# Altium integrated library Caps.IntLib: 151 symbols (part 1 of 3)
Pins are listed as number, name and electrical type; pins without a type are passive.

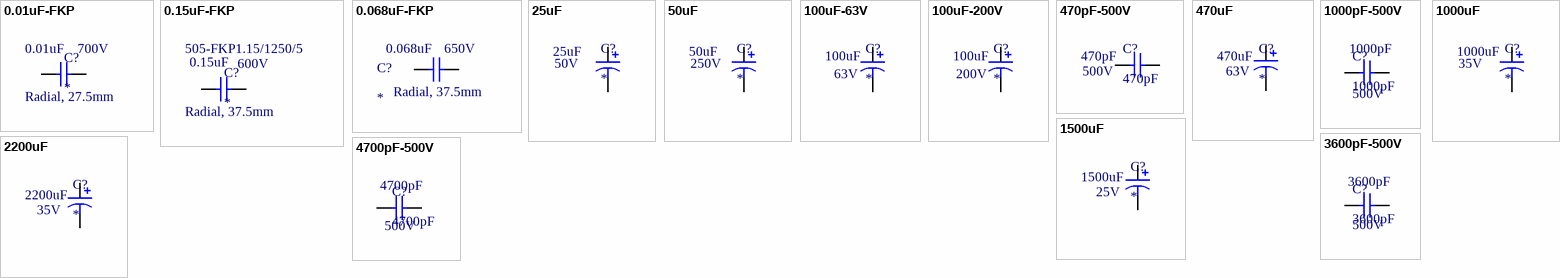
[diagram p0: symbols 0.01uF-FKP to 4700pF-500V]

## 0.01uF-FKP
designator C?  value 0.01uF  VoltageAC: 700V  PackageReference: Radial, 27.5mm
0.01uF, Film Capacitor, 31.5mm x 11mm, 21mm, lead spacing 27.5mm, 700VAC, 2kVDC, 5%; Manufacturer: WIMA; Manufacturer Part Number: FKP1U021006B00JYSD; Value2: 10nF; VoltageDC: 2kV; LatestRevisionDate: *; PackageDescription: Film Capacitor; Published: *; Publisher: Altium Limited; Temperature: -55 to +100; Supplier 1: Mouser; Supplier 2: TME; Supplier Part Number 1: 505-FKP1.01/2000/5; Supplier Part Number 2: FKP1-10N/2000
footprint FKP-27.5-6B (FKP1 series film capacitor, size 6B, WIMA)
3D model FKP-27_5-6B (PCB3D Model)
simulation model CAP (Default semiconductor capacitor)
pins: 1, 2

## 0.15uF-FKP
designator C?  value 0.15uF  VoltageAC: 600V  PackageReference: Radial, 37.5mm  Supplier Part Number 1: 505-FKP1.15/1250/5
0.15uF, Film Capacitor, 41.5mm x 17mm, 29mm, lead spacing 37.5mm, 600VAC 1.25kVDC, 5%; Manufacturer: WIMA; Manufacturer Part Number: FKP1R031507E00JSSD; Value2: 150nF; VoltageDC: 1.25kV; LatestRevisionDate: *; PackageDescription: Film Capacitor; Published: *; Publisher: Altium Limited; Temperature: -55 to +100; Supplier 1: Mouser
footprint FKP-37.5-7E (FKP1 series film capacitor, size 7D, WIMA)
simulation model CAP (Default semiconductor capacitor)
pins: 1, 2

## 0.068uF-FKP
designator C?  value 0.068uF  Package Reference: Radial, 37.5mm  VoltageAC: 650V
0.068uF, Film Capacitor, 41.5mm x 15mm, 26mm, lead spacing 37.5mm, 650VAC 1.6kVDC, 5%; Manufacturer: WIMA; Manufacturer Part Number: FKP1T026807D00JYSD; Value2: 68nF; VoltageDC: 1.6kV; Supplier 1: Mouser; LatestRevisionDate: *; PackageDescription: Film Capacitor; Published: *; Publisher: Altium Limited; Temperature: -55 to +100; Supplier Part Number 1: 505-FKP1.068/1600/5
footprint FKP-37.5-7D (FKP1 series film capacitor, size 7D, WIMA)
3D model FKP-37_5-7D (PCB3D Model)
simulation model CAP (Default semiconductor capacitor)
pins: 1, 2

## 25uF
designator C?  value 25uF  VoltageDC: 50V
25uF, Alum Electrolytic Capacitor, 50V, 6mm x 13mm, axial; Manufacturer: Farnell; ManufacturerPartNumber: MCAX25V256K6X13; Impedance: 29mOhm; LatestRevisionDate: *; PackageDescription: Aluminum Electrolytic Capacitor; Published: *; Publisher: Altium Limited; Temperature: -40C to 105C; VoltageAC: *; PackageReference: Thru-hole, Axial; Supplier 1: Newark; Supplier Part Number 1: 97M3997; Dimensions: 6mm x 13mm
footprint MCAX-6mmx13mm (Axial Leaded, 20mm lead spacing)
pins: 1, 2

## 50uF
designator C?  value 50uF  VoltageDC: 250V
50uF, Alum Electrolytic Capacitor, axial; Manufacturer: Vishay; ManufacturerPartNumber: TVA1512-E3; LatestRevisionDate: *; PackageDescription: Aluminum Electrolytic Capacitor; Published: *; Publisher: Altium Limited; Temperature: -20C to 85C; VoltageAC: *; PackageReference: Thru-hole, Axial; Dimensions: 22mm x 35mm; Supplier 1: Newark; Supplier Part Number 1: 65K2262; Supplier 2: Mouser; Supplier Part Number 2: 75-TVA1512-E3
footprint TVA-ATOM-HG (TVA-ATOM Series, HG Case, 22.225mm x 34.925, axial)
pins: 1, 2

## 100uF-63V
designator C?  value 100uF  VoltageDC: 63V
100uF, Alum Electrolytic Capacitor, 63V, 10mm x 20mm, lead spacing 5mm; Manufacturer: Nichicon-us; Manufacturer Part Number: UPM1J101MPD; LatestRevisionDate: *; PackageDescription: Aluminum Electrolytic Capacitor; PackageReference: Radial, 5mm; Published: *; Publisher: Altium Limited; Temperature: -55C to +105C; VoltageAC: *; Supplier 1: Newark; Supplier Part Number 1: 65R3647; Supplier 2: Digi-Key; Supplier Part Number 2: UPM1J101MPD-ND; Supplier 3: Mouser; Supplier Part Number 3: 647-UPM1J101MPD
footprint THRU-PM-1J (Capacitor, PM series, alum electrolytic 10 x 20mm 5mm lead spacing)
pins: 1, 2

## 100uF-200V
designator C?  value 100uF  VoltageDC: 200V
100uF, Alum Electrolytic Capacitor, 200V, 21mm x 38mm, axial; Manufacturer: Vishay; Manufacturer Part Number: MAL211892101E3; LatestRevisionDate: *; PackageDescription: Aluminum Electrolytic Capacitor; PackageReference: Axial; Published: *; Publisher: Altium Limited; Temperature: -55C to +125C; VoltageAC: *; Supplier 1: Digi-Key; Supplier Part Number 1: 4182PHBK-ND; Supplier 2: Newark; Supplier Part Number 2: 14M6684
footprint 118AHT-AXIAL-21mmx38mm (118 AHT Series, Axial, 21mm x 38mm)
footprint THRU-22mmx35mm (Capacitor, 22mm x 35mm, axial mounted as radial)
pins: 1, 2

## 470pF-500V
designator C?, comment 470pF  VoltageDC: 500V
470uF, Mica Capacitor, 500V, 5%; Manufacturer: Cornell Dubilier; Manufacturer Part Number: CM06FD471JO3; LatestRevisionDate: *; PackageDescription: Mica Capacitor; PackageReference: Radial, 9mm; Published: *; Publisher: Altium Limited; Temperature: -55C to +105C; VoltageAC: *; Supplier 1: Newark; Supplier Part Number 1: 12C3891; Supplier 2: Mouser; Supplier Part Number 2: 598-CM06FD471JO3; Value: 470pF
footprint MICA-6MM (MICA cap 6MM lead spacing)
pins: 1, 2

## 470uF
designator C?  value 470uF  VoltageDC: 63V
470uF, Alum Electrolytic Capacitor, 63V, 12.5mm x 20mm, lead spacing 5mm; Manufacturer: Nichicon-us; Manufacturer Part Number: UVZ1J471MHD1TO; LatestRevisionDate: *; PackageDescription: Aluminum Electrolytic Capacitor; PackageReference: Radial, 5mm; Published: *; Publisher: Altium Limited; Temperature: -55C to +105C; VoltageAC: *; Supplier 1: Newark; Supplier Part Number 1: 70K9718; Supplier 2: Mouser; Supplier Part Number 2: 647-UVZ1J471MHD1TO
footprint THRU-KZE-K25 (Capacitor, KMG series, alum electrolytic 12.5 x 25mm 5mm lead spacing)
pins: 1, 2

## 1000pF-500V
designator C?, comment 1000pF  VoltageDC: 500V
1000pF, Mica Capacitor, 500V, 5%; Manufacturer: Cornell Dubilier; Manufacturer Part Number: CD19FD102JO3; LatestRevisionDate: *; PackageDescription: Mica Capacitor; PackageReference: Radial, 7.6mm; Published: *; Publisher: Altium Limited; Temperature: -55C to +105C; VoltageAC: *; Supplier 1: Newark; Supplier Part Number 1: 12C3148; Supplier 2: Mouser; Supplier Part Number 2: 5982-19-500V1000; Value: 1000pF
footprint MICA-9MM (MICA cap 9MM lead spacing)
pins: 1, 2

## 1000uF
designator C?  value 1000uF  VoltageDC: 35V
1000uF, Alum Electrolytic Capacitor, 35V, 16mm x 20mm, lead spacing 7.5mm; Manufacturer: Panasonic; Manufacturer Part Number: EEU-FC1V102S; Impedance: 29mOhm; LatestRevisionDate: *; PackageDescription: Aluminum Electrolytic Capacitor; Published: *; Publisher: Altium Limited; Temperature: -55C to 105C; VoltageAC: *; PackageReference: Thru-Hole, 7.5mm; Supplier 1: Digi-Key; Supplier Part Number 1: P10876-ND; Supplier 2: Newark; Supplier Part Number 2: 17T5114; Supplier 3: Mouser; Supplier Part Number 3: 667-EEU-FC1V102SB
footprint THRU-KMG-L25 (Capacitor, KMG series, alum electrolytic 16 x 25mm 7.5mm lead spacing)
pins: 1, 2

## 1500uF
designator C?  value 1500uF  VoltageDC: 25V
1500uF, Alum Electrolytic Capacitor, 25V, 12.5mm x 25mm, lead spacing 5mm; Manufacturer: Chemi-Con; Manufacturer Part Number: EKZE250ELL152MK25S; LatestRevisionDate: *; PackageDescription: Aluminum Electrolytic Capacitor; PackageReference: Radial, 5mm; Published: *; Publisher: Altium Limited; Temperature: -40 to +105; VoltageAC: *; Supplier 1: Mouser; Supplier Part Number 1: 661-EKZE250ELL152MK2; Supplier 2: Newark; Supplier Part Number 2: 23K3957; Supplier 3: Digi-Key; Supplier Part Number 3: 565-1682-ND
footprint THRU-KZE-K25 (Capacitor, KMG series, alum electrolytic 12.5 x 25mm 5mm lead spacing)
pins: 1, 2

## 2200uF
designator C?  value 2200uF  VoltageDC: 35V
2200uF, Alum Electrolytic Capacitor, 35V, 16mm x 25mm, lead spacing 7.5mm; Manufacturer: United Chemi-Con; Manufacturer Part Number: EKMG350ELL222ML25S; LatestRevisionDate: *; Package Description: Aluminum Electrolytic Capacitor; PackageReference: Radial, 7.5mm; Published: *; Publisher: Altium Limited; VoltageAC: *; Supplier 1: Newark; Supplier Part Number 1: 23K3634; Supplier 2: Digi-Key; Supplier Part Number 2: 565-1326-ND; Supplier 3: Mouser; Supplier Part Number 3: 661-EKMGG350ELL222ML
footprint THRU-KMG-L25 (Capacitor, KMG series, alum electrolytic 16 x 25mm 7.5mm lead spacing)
pins: 1, 2

## 3600pF-500V
designator C?, comment 3600pF  VoltageDC: 500V
3600pF, Mica Capacitor, 500V, 5%; Manufacturer: Cornell Dubilier; Manufacturer Part Number: CD19FD362JO3; LatestRevisionDate: *; PackageDescription: Mica Capacitor; PackageReference: Radial, 7.6mm; Published: *; Publisher: Altium Limited; Temperature: -55C to +105C; VoltageAC: *; Supplier 1: Newark; Supplier Part Number 1: 12C3148; Supplier 2: Mouser; Supplier Part Number 2: 5982-19-500V3600; Value: 3600pF
footprint MICA-9MM (MICA cap 9MM lead spacing)
pins: 1, 2

## 4700pF-500V
designator C?, comment 4700pF  VoltageDC: 500V
4700pF, Mica Capacitor, 500V, 5%; Manufacturer: Cornell Dubilier; Manufacturer Part Number: CM06FD472JO3; LatestRevisionDate: *; PackageDescription: Mica Capacitor; PackageReference: Radial, 9mm; Published: *; Publisher: Altium Limited; Temperature: -55C to +105C; VoltageAC: *; Supplier 1: Newark; Supplier Part Number 1: 12C3891; Supplier 2: Mouser; Supplier Part Number 2: 598-CM06FD472JO3; Value: 4700pF
footprint MICA-9MM (MICA cap 9MM lead spacing)
pins: 1, 2


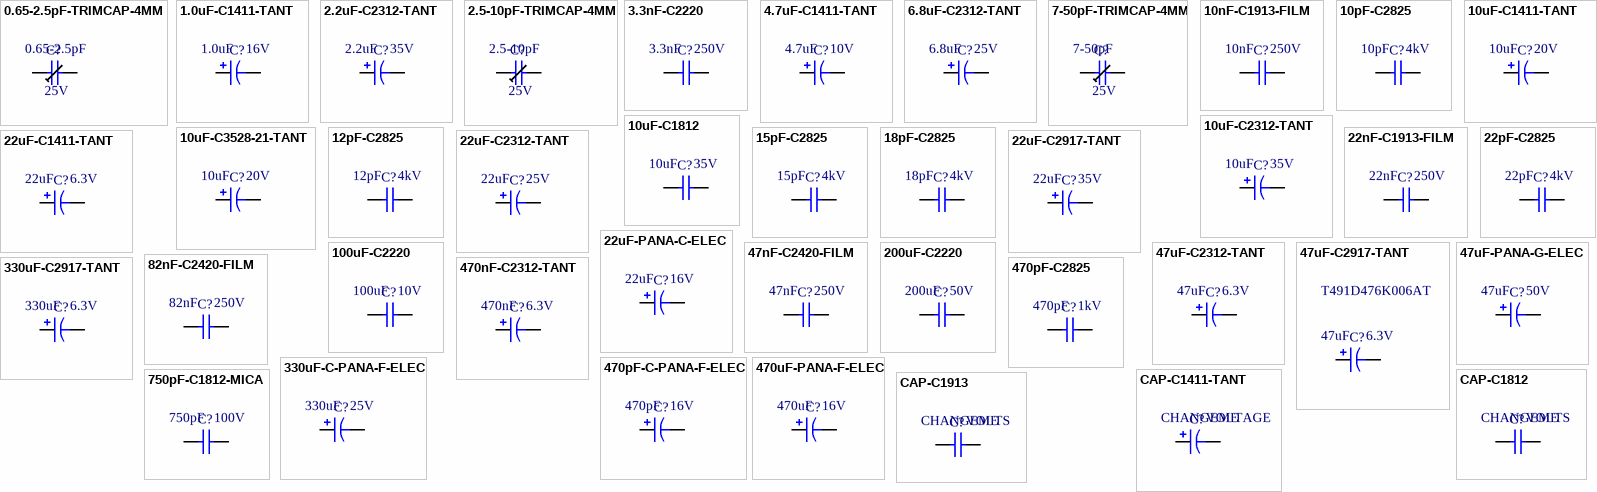
[diagram p1: symbols 0.65-2.5pF-TRIMCAP-4MM to CAP-C1913]

## 0.65-2.5pF-TRIMCAP-4MM
designator C?, comment value 0.65-2.5pF  Voltage: 25V  (hidden comment: TZY2Z2R5A001R00, .65-2.5pF, 0805, 25V)
0.65-2.5pF, SMD Trimmer Capacitor, 4mm x 1.25mm, Non Polarized, 25V; Published: 8-Jun-2000; LatestRevisionDate: 29-May-2009; LatestRevisionNote: IPC-7351 Footprint Added.; Publisher: Altium Limited; PackageDescription: Trim Capacitor; Supplier 1: Mouser; Supplier 2: Digi-Key; Supplier Part Number 1: 81-TZY2Z2R5A001R00; Supplier Part Number 2: 490-2008-1-ND; Part Number: TZY2Z2R5A001R00; PackageReference: 4mmx1.25
footprint TRIMCAP-4MM (Trim Capacitor, 2-Leads, Body 4.0 x 1.25mm, IPC Medium Density)
simulation model CAP (Capacitor)
signal-integrity model Cap Semi (Capacitor Signal Integrity Analisys)
pins: 1, 2

## 1.0uF-C1411-TANT
designator C?, comment value 1.0uF  Voltage: 16V  (hidden comment: 1.0uF, 1411, 16V)
1.0uF, SMD Tantalum Capacitor, 1411 size, Polarized, 16V; Published: 8-Jun-2000; LatestRevisionDate: 29-May-2009; LatestRevisionNote: IPC-7351 Footprint Added.; Publisher: Altium Limited; PackageDescription: Chip Capacitor; Supplier 1: Digi-Key; Supplier 2: Digi-Key; Supplier 3: Mouser; Supplier Part Number 1: 399-10227-6-ND; Supplier Part Number 2: 399-10227-1-ND; Supplier Part Number 3: 80-T494B105K025; PackageReference: 1411C
footprint 1411-C-TANT (Capacitor, SM Tantalum; Body 3.5 x 2.8 mm (LxW typ), Kemet size code: B, T, AVX size code: B, T)
simulation model CAP (Capacitor)
signal-integrity model Cap Semi (Capacitor Signal Integrity Analisys)
3D model 1411Cap-Tant-B (PCB3D Model)
pins: 1, 2

## 2.2uF-C2312-TANT
designator C?, comment value 2.2uF  Voltage: 35V  (hidden comment: 2.2uF, 2312, 35V)
2.2uF, SMD Chip Capacitor, 2312 size, Tantalum, Polarized, 35V; Published: 8-Jun-2000; LatestRevisionDate: 29-May-2009; LatestRevisionNote: IPC-7351 Footprint Added.; Publisher: Altium Limited; PackageDescription: Chip Capacitor; Supplier 1: Mouser; Supplier 2: Digi-Key; Supplier 3: Newark; Supplier Part Number 1: 80-T491C225K035; Supplier Part Number 2: 399-3740-1-ND; Supplier Part Number 3: 57K1881; PackageReference: 2312C
footprint 2412-C-TANT (Capacitor, SM Tantalum; Body 6.0 x 3.2 mm (LxW typ), Kemet Size Codes: U, C; AVX size code: C, W)
simulation model CAP (Capacitor)
signal-integrity model Cap Semi (Capacitor Signal Integrity Analisys)
3D model 2312Cap-Tant-C (PCB3D Model)
pins: 1, 2

## 2.5-10pF-TRIMCAP-4MM
designator C?, comment value 2.5-10pF  Voltage: 25V  (hidden comment: 2.5-10pF, 0805, 25V)
2.5-10pF, SMD Trimmer Capacitor, 4mm x 1.25mm, Non Polarized, 25V; Published: 8-Jun-2000; LatestRevisionDate: 29-May-2009; LatestRevisionNote: IPC-7351 Footprint Added.; Publisher: Altium Limited; PackageDescription: Trim Capacitor; Supplier 1: Digi-Key; Supplier 2: Mouser; Supplier Part Number 1: CTZ3E-10A-W1-ND; Supplier Part Number 2: N/A; PackageReference: 4 x 1.25 mm
footprint TRIMCAP-4MM (Trim Capacitor, 2-Leads, Body 4.0 x 1.25mm, IPC Medium Density)
simulation model CAP (Capacitor)
signal-integrity model Cap Semi (Capacitor Signal Integrity Analisys)
pins: 1, 2

## 3.3nF-C2220
designator C?, comment value 3.3nF  Voltage: 250V  (hidden comment: 3.3nF, 2220, 4kV)
3.3nF, SMD Chip Capacitor, 2220 size, Non Polarized, 250V; Published: 8-Jun-2000; LatestRevisionDate: 29-May-2009; LatestRevisionNote: IPC-7351 Footprint Added.; Publisher: Altium Limited; PackageDescription: Chip Capacitor; Supplier 1: Digi-Key; Supplier 2: Newark; Supplier 3: Mouser; Supplier Part Number 1: 490-3481-1-ND; Supplier Part Number 2: 74R4275; Supplier Part Number 3: 81-GA355QR7GF332KL; PackageReference: 2220C
footprint 2220-C (Chip Capacitor, 2-Leads IPC Low Density)
simulation model CAP (Capacitor)
signal-integrity model Cap Semi (Capacitor Signal Integrity Analisys)
3D model 2220Cap (PCB3D Model)
pins: 1, 2

## 4.7uF-C1411-TANT
designator C?, comment value 4.7uF  Voltage: 10V  (hidden comment: 4.7uF, 1411, 10V)
4.7uF, SMD Tantalum Capacitor, 1411 size, Polarized, 10V; Published: 8-Jun-2000; LatestRevisionDate: 29-May-2009; LatestRevisionNote: IPC-7351 Footprint Added.; Publisher: Altium Limited; PackageDescription: Chip Capacitor; Supplier 1: Digi-Key; Supplier 2: Newark; Supplier 3: Arrow; Supplier 4: Mouser; Supplier Part Number 1: 399-3838-1-ND; Supplier Part Number 2: 32K7024; Supplier Part Number 3: T494B475K010AT; Supplier Part Number 4: 80-T494B475K010; PackageReference: 1411C
footprint 1411-C-TANT (Capacitor, SM Tantalum; Body 3.5 x 2.8 mm (LxW typ), Kemet size code: B, T, AVX size code: B, T)
simulation model CAP (Capacitor)
signal-integrity model Cap Semi (Capacitor Signal Integrity Analisys)
3D model 1411Cap-Tant-B (PCB3D Model)
pins: 1, 2

## 6.8uF-C2312-TANT
designator C?, comment value 6.8uF  Voltage: 25V  (hidden comment: 6.8uF, 2312, 25V)
6.8uF, SMD Chip Capacitor, 2312 size, Tantalum, Polarized 25V; Published: 8-Jun-2000; LatestRevisionDate: 29-May-2009; LatestRevisionNote: IPC-7351 Footprint Added.; Publisher: Altium Limited; PackageDescription: Chip Capacitor; Supplier 1: Mouser; Supplier 2: Arrow; Supplier 3: Digi-Key; Supplier 4: Newark; Supplier Part Number 1: 80-T491C685K025; Supplier Part Number 2: T491C685K025AT; Supplier Part Number 3: 399-3760-1-ND; Supplier Part Number 4: 57K1934; PackageReference: 2312C
footprint 2412-C-TANT (Capacitor, SM Tantalum; Body 6.0 x 3.2 mm (LxW typ), Kemet Size Codes: U, C; AVX size code: C, W)
simulation model CAP (Capacitor)
signal-integrity model Cap Semi (Capacitor Signal Integrity Analisys)
3D model 2312Cap-Tant-C (PCB3D Model)
pins: 1, 2

## 7-50pF-TRIMCAP-4MM
designator C?, comment value 7-50pF  Voltage: 25V  (hidden comment: 7-50pF, 4mm, 25V)
7-50pF, SMD Trimmer Capacitor, 4mm x 1.25mm, Non Polarized, 25V; Published: 8-Jun-2000; LatestRevisionDate: 29-May-2009; LatestRevisionNote: IPC-7351 Footprint Added.; Publisher: Altium Limited; PackageDescription: Trim Capacitor; Supplier 1: Newark; Supplier 2: Digi-Key; Supplier 3: Mouser; Supplier Part Number 1: 33R1447; Supplier Part Number 2: 490-7146-1-ND; Supplier Part Number 3: 81-TZB4R500AB10R00; PackageReference: 4mmx1.25
footprint TRIMCAP-4MM (Trim Capacitor, 2-Leads, Body 4.0 x 1.25mm, IPC Medium Density)
simulation model CAP (Capacitor)
signal-integrity model Cap Semi (Capacitor Signal Integrity Analisys)
pins: 1, 2

## 10nF-C1913-FILM
designator C?, comment value 10nF  Voltage: 250V  (hidden comment: 10nF, 1913, 250V)
10nF, SMD Chip Capacitor, 1913 size, Non Polarized, 250V, FILM; Published: 8-Jun-2000; LatestRevisionDate: 29-May-2009; LatestRevisionNote: IPC-7351 Footprint Added.; Publisher: Altium Limited; PackageDescription: Chip Capacitor; Supplier 1: Digi-Key; Supplier 2: Mouser; Supplier Part Number 1: PCF1247CT-ND; Supplier Part Number 2: 667-ECW-U2102KC9; PackageReference: 1913C
footprint 1913-C (Chip Capacitor, 2-Leads, IPC Low Density)
simulation model CAP (Capacitor)
signal-integrity model Cap Semi (Capacitor Signal Integrity Analisys)
3D model 1913Cap (PCB3D Model)
pins: 1, 2

## 10pF-C2825
designator C?, comment value 10pF  Voltage: 4kV  (hidden comment: 10pF, 2825, 4kV)
10pF, SMD Chip Capacitor, 2825 size, Non Polarized, 4kV; Published: 8-Jun-2000; LatestRevisionDate: 29-May-2009; LatestRevisionNote: IPC-7351 Footprint Added.; Publisher: Altium Limited; PackageDescription: Chip Capacitor; Supplier 1: Digi-Key; Supplier 2: Mouser; Supplier Part Number 1: PCC2368CT-ND; Supplier Part Number 2: 667-ECC-T3F100DG2; PackageReference: 2825C
footprint 2825-C (Molded Capacitor, 2-Leads, Body 5.70x4.50mm, IPC Low Density)
simulation model CAP (Capacitor)
signal-integrity model Cap Semi (Capacitor Signal Integrity Analisys)
pins: 1, 2

## 10uF-C1411-TANT
designator C?, comment value 10uF  Voltage: 20V  (hidden comment: 10uF, 1411, 20V)
10uF, SMD Tantalum Capacitor, 1411 size, Polarized, 20V; Published: 8-Jun-2000; LatestRevisionDate: 29-May-2009; LatestRevisionNote: IPC-7351 Footprint Added.; Publisher: Altium Limited; PackageDescription: Chip Capacitor; Supplier 1: Newark; Supplier 2: Digi-Key; Supplier 3: Mouser; Supplier Part Number 1: 12N2783; Supplier Part Number 2: 399-4973-1-ND; Supplier Part Number 3: 80-T495B106K20ATE1K; PackageReference: 1411C
footprint 1411-C-TANT (Capacitor, SM Tantalum; Body 3.5 x 2.8 mm (LxW typ), Kemet size code: B, T, AVX size code: B, T)
simulation model CAP (Capacitor)
signal-integrity model Cap Semi (Capacitor Signal Integrity Analisys)
3D model 1411Cap-Tant-B (PCB3D Model)
pins: 1, 2

## 10uF-C1812
designator C?, comment value 10uF  Voltage: 35V  (hidden comment: 10uF, 1812, 35V)
10uF, SMD Chip Capacitor, 1812 size, Non Polarized, 35V; Published: 8-Jun-2000; LatestRevisionDate: 29-May-2009; LatestRevisionNote: IPC-7351 Footprint Added.; Publisher: Altium Limited; PackageDescription: Chip Capacitor; Supplier 1: Arrow; Supplier 2: Digi-Key; Supplier Part Number 1: ECJ-5YF1V106Z; Supplier Part Number 2: PCC2183CT-ND; PackageReference: 1812C
footprint 1812-C (Chip Capacitor, 2-Leads, IPC Low Density)
simulation model CAP (Capacitor)
signal-integrity model Cap Semi (Capacitor Signal Integrity Analisys)
3D model 1812Cap (PCB3D Model)
pins: 1, 2

## 10uF-C2312-TANT
designator C?, comment value 10uF  Voltage: 35V  (hidden comment: 10uF, 2312, 35V)
10uF, SMD Chip Capacitor, 2312 size, Tantalum, Polarized, 35V; Published: 8-Jun-2000; LatestRevisionDate: 29-May-2009; LatestRevisionNote: IPC-7351 Footprint Added.; Publisher: Altium Limited; PackageDescription: Chip Capacitor; Supplier 1: Mouser; Supplier 2: Arrow; Supplier 3: Digi-Key; Supplier 4: Newark; Supplier Part Number 1: 80-T491C106K035; Supplier Part Number 2: T491C106K035AT; Supplier Part Number 3: 399-8333-1-ND; Supplier Part Number 4: 57K1849; PackageReference: 2312C
footprint 2412-C-TANT (Capacitor, SM Tantalum; Body 6.0 x 3.2 mm (LxW typ), Kemet Size Codes: U, C; AVX size code: C, W)
simulation model CAP (Capacitor)
signal-integrity model Cap Semi (Capacitor Signal Integrity Analisys)
3D model 2312Cap-Tant-C (PCB3D Model)
pins: 1, 2

## 10uF-C3528-21-TANT
designator C?, comment value 10uF  Voltage: 20V  (hidden comment: 10uF, 3528-21, 20V)
10uF, SMD Tantalum Capacitor, 3528-21 size, Polarized, 20V; Published: 8-Jun-2000; LatestRevisionDate: 29-May-2009; LatestRevisionNote: IPC-7351 Footprint Added.; Publisher: Altium Limited; PackageDescription: Chip Capacitor; PackageReference: 3528-21
simulation model CAP (Capacitor)
signal-integrity model Cap Semi (Capacitor Signal Integrity Analisys)
3D model 1411Cap-Tant-B (PCB3D Model)
footprint 1210-C-TANT (Molded Capacitor, 2-Leads, Body 3.50x2.85mm, IPC Low Density)
pins: 1, 2

## 12pF-C2825
designator C?, comment value 12pF  Voltage: 4kV  (hidden comment: 12pF, 2825, 4kV)
12pF, SMD Chip Capacitor, 2825 size, Non Polarized, 4kV; Published: 8-Jun-2000; LatestRevisionDate: 29-May-2009; LatestRevisionNote: IPC-7351 Footprint Added.; Publisher: Altium Limited; PackageDescription: Chip Capacitor; Supplier 1: Digi-Key; Supplier 2: Mouser; Supplier Part Number 1: PCC2376CT-ND; Supplier Part Number 2: 667-ECC-T3G120JG2; PackageReference: 2825C
footprint 2825-C (Molded Capacitor, 2-Leads, Body 5.70x4.50mm, IPC Low Density)
simulation model CAP (Capacitor)
signal-integrity model Cap Semi (Capacitor Signal Integrity Analisys)
pins: 1, 2

## 15pF-C2825
designator C?, comment value 15pF  Voltage: 4kV  (hidden comment: 15pF, 2825, 4kV)
15pF, SMD Chip Capacitor, 2825 size, Non Polarized, 4kV; Published: 8-Jun-2000; LatestRevisionDate: 29-May-2009; LatestRevisionNote: IPC-7351 Footprint Added.; Publisher: Altium Limited; PackageDescription: Chip Capacitor; Supplier 1: Mouser; Supplier 2: Arrow; Supplier 3: Digi-Key; Supplier Part Number 1: 667-ECC-T3G150JG2; Supplier Part Number 2: ECC-T3G150JG2; Supplier Part Number 3: PCC2377CT-ND; PackageReference: 2825C
footprint 2825-C (Molded Capacitor, 2-Leads, Body 5.70x4.50mm, IPC Low Density)
simulation model CAP (Capacitor)
signal-integrity model Cap Semi (Capacitor Signal Integrity Analisys)
pins: 1, 2

## 18pF-C2825
designator C?, comment value 18pF  Voltage: 4kV  (hidden comment: 18pF, 2825, 4kV)
18pF, SMD Chip Capacitor, 2825 size, Non Polarized, 4kV; Published: 8-Jun-2000; LatestRevisionDate: 29-May-2009; LatestRevisionNote: IPC-7351 Footprint Added.; Publisher: Altium Limited; PackageDescription: Chip Capacitor; Supplier 1: Digi-Key; Supplier 2: Mouser; Supplier Part Number 1: PCC2378CT-ND; Supplier Part Number 2: 667-ECC-T3G180JG2; PackageReference: 2825C
footprint 2825-C (Molded Capacitor, 2-Leads, Body 5.70x4.50mm, IPC Low Density)
simulation model CAP (Capacitor)
signal-integrity model Cap Semi (Capacitor Signal Integrity Analisys)
pins: 1, 2

## 22nF-C1913-FILM
designator C?, comment value 22nF  Voltage: 250V  (hidden comment: 22nF, 1913, 250V)
22nF, SMD Chip Capacitor, 1913 size, Non Polarized, 250V, FILM; Published: 8-Jun-2000; LatestRevisionDate: 29-May-2009; LatestRevisionNote: IPC-7351 Footprint Added.; Publisher: Altium Limited; PackageDescription: Chip Capacitor; Supplier 1: Mouser; Supplier 2: Digi-Key; Supplier 3: Newark; Supplier Part Number 1: 667-ECW-U2223V16; Supplier Part Number 2: PCF1404CT-ND; Supplier Part Number 3: 32R8885; PackageReference: 1913C
footprint 1913-C (Chip Capacitor, 2-Leads, IPC Low Density)
simulation model CAP (Capacitor)
signal-integrity model Cap Semi (Capacitor Signal Integrity Analisys)
3D model 1913Cap (PCB3D Model)
pins: 1, 2

## 22pF-C2825
designator C?, comment value 22pF  Voltage: 4kV  (hidden comment: 22pF, 2825,4kV)
22pF, SMD Chip Capacitor, 2825 size, Non Polarized, 4kV; Published: 8-Jun-2000; LatestRevisionDate: 29-May-2009; LatestRevisionNote: IPC-7351 Footprint Added.; Publisher: Altium Limited; PackageDescription: Chip Capacitor; Supplier 1: Mouser; Supplier 2: Digi-Key; Supplier Part Number 1: 667-ECC-T3G220JG2; Supplier Part Number 2: PCC2379CT-ND; PackageReference: 2825C
footprint 2825-C (Molded Capacitor, 2-Leads, Body 5.70x4.50mm, IPC Low Density)
simulation model CAP (Capacitor)
signal-integrity model Cap Semi (Capacitor Signal Integrity Analisys)
pins: 1, 2

## 22uF-C1411-TANT
designator C?, comment value 22uF  Voltage: 6.3V  (hidden comment: 22uF, 1411, 6.3V)
22uF, SMD Tantalum Capacitor, 1411 size, Polarized, 6.3V; Published: 8-Jun-2000; LatestRevisionDate: 29-May-2009; LatestRevisionNote: IPC-7351 Footprint Added.; Publisher: Altium Limited; PackageDescription: Chip Capacitor; Supplier 1: Arrow; Supplier 2: Digi-Key; Supplier 3: Newark; Supplier 4: Mouser; Supplier Part Number 1: T491B226K006AT; Supplier Part Number 2: 399-3716-1-ND; Supplier Part Number 3: 57K1779; Supplier Part Number 4: 80-T491B226K006; PackageReference: 1411C
footprint 1411-C-TANT (Capacitor, SM Tantalum; Body 3.5 x 2.8 mm (LxW typ), Kemet size code: B, T, AVX size code: B, T)
simulation model CAP (Capacitor)
signal-integrity model Cap Semi (Capacitor Signal Integrity Analisys)
3D model 1411Cap-Tant-B (PCB3D Model)
pins: 1, 2

## 22uF-C2312-TANT
designator C?, comment value 22uF  Voltage: 25V  (hidden comment: 22uF, 2312, 25V)
22uF, SMD Chip Capacitor, 2312 size, Tantalum, Polarized 25V; Published: 8-Jun-2000; LatestRevisionDate: 29-May-2009; LatestRevisionNote: IPC-7351 Footprint Added.; Publisher: Altium Limited; PackageDescription: Chip Capacitor; Supplier 1: Mouser; Supplier 2: Digi-Key; Supplier 3: Arrow; Supplier 4: Newark; Supplier Part Number 1: 80-T491C226K025; Supplier Part Number 2: 399-3746-1-ND; Supplier Part Number 3: T491C226K025AT; Supplier Part Number 4: 57K1890; PackageReference: 2312C
footprint 2412-C-TANT (Capacitor, SM Tantalum; Body 6.0 x 3.2 mm (LxW typ), Kemet Size Codes: U, C; AVX size code: C, W)
simulation model CAP (Capacitor)
signal-integrity model Cap Semi (Capacitor Signal Integrity Analisys)
3D model 2312Cap-Tant-C (PCB3D Model)
pins: 1, 2

## 22uF-C2917-TANT
designator C?, comment value 22uF  Voltage: 35V  (hidden comment: TPSE226M035R0300)
22uF, SMD Chip Capacitor, 2917 size, Tantalum, Polarized, 35V; Published: 8-Jun-2000; LatestRevisionDate: 29-May-2009; LatestRevisionNote: IPC-7351 Footprint Added.; Publisher: Altium Limited; PackageDescription: Chip Capacitor; Supplier 1: Mouser; Supplier Part Number 1: 581-TPSE226M035R0300; Supplier 2: Newark; Supplier Part Number 2: 84K8378; Supplier 3: Digi-Key; Supplier Part Number 3: 478-4129-1-ND; PackageReference: 2917C
footprint 2917-C-TANT (Capacitor, SM Tantalum; Body 7.3 x 4.3 mm (LxW typ), Kemet size code: V, D, X.  AVX size code: Y, D, E)
simulation model CAP (Capacitor)
signal-integrity model Cap Semi (Capacitor Signal Integrity Analisys)
3D model 2917Cap-Tant-D (PCB3D Model)
pins: 1, 2

## 22uF-PANA-C-ELEC
designator C?, comment value 22uF  Voltage: 16V  (hidden comment: 22uF, Size 'C', 16V)
22uF, SMD Electrolytic Can, Panasonic Size code 'C', Aluminum, Polarized, 16V; Published: 8-Jun-2000; LatestRevisionDate: 29-May-2009; LatestRevisionNote: IPC-7351 Footprint Added.; Publisher: Altium Limited; PackageDescription: Panasonic Can Size C; Supplier 1: Newark; Supplier 2: Arrow; Supplier 3: Mouser; Supplier 4: Digi-Key; Supplier Part Number 1: 58T9220; Supplier Part Number 2: EEE-HA1C220WR; Supplier Part Number 3: 667-EEE-HA1C220WR; Supplier Part Number 4: PCE4182CT-ND; PackageReference: PanaCap-C
footprint PANACAP-C (SMD Aluminum Can Electrolytic Capacitor, Size code C, IPC Low Density)
simulation model CAP (Capacitor)
signal-integrity model Cap Semi (Capacitor Signal Integrity Analisys)
3D model PanaCap-C (PCB3D Model)
pins: +, -

## 47nF-C2420-FILM
designator C?, comment value 47nF  Voltage: 250V  (hidden comment: 47nF, 2420, 250V)
47nF, SMD Chip Capacitor, 2420 size, Non Polarized, 250V, FILM; Published: 8-Jun-2000; LatestRevisionDate: 29-May-2009; LatestRevisionNote: IPC-7351 Footprint Added.; Publisher: Altium Limited; PackageDescription: Chip Capacitor; Supplier 1: Newark; Supplier 2: Digi-Key; Supplier 3: Mouser; Supplier Part Number 1: 53W8315; Supplier Part Number 2: PCF1267CT-ND; Supplier Part Number 3: 667-ECW-U2473KC9; PackageReference: 2420C
footprint 2420-C (Chip Capacitor, 2-Leads, Body 6.00x5.00mm, IPC Low Density)
simulation model CAP (Capacitor)
signal-integrity model Cap Semi (Capacitor Signal Integrity Analisys)
pins: 1, 2

## 47uF-C2312-TANT
designator C?, comment value 47uF  Voltage: 6.3V  (hidden comment: 47uF, 2312, 6.3V)
47uF, SMD Chip Capacitor, 2312 size, Tantalum, Polarized, 6.3V; Published: 8-Jun-2000; LatestRevisionDate: 29-May-2009; LatestRevisionNote: IPC-7351 Footprint Added.; Publisher: Altium Limited; PackageDescription: Chip Capacitor; Supplier 1: Mouser; Supplier 2: Arrow; Supplier 3: Digi-Key; Supplier Part Number 1: 80-T491C476K006; Supplier Part Number 2: T491C476K006AT; Supplier Part Number 3: 399-3756-1-ND; PackageReference: 2312C
footprint 2412-C-TANT (Capacitor, SM Tantalum; Body 6.0 x 3.2 mm (LxW typ), Kemet Size Codes: U, C; AVX size code: C, W)
simulation model CAP (Capacitor)
signal-integrity model Cap Semi (Capacitor Signal Integrity Analisys)
3D model 2312Cap-Tant-C (PCB3D Model)
pins: 1, 2

## 47uF-C2917-TANT
designator C?, comment value 47uF  Voltage: 6.3V  Supplier Part Number 3: T491D476K006AT  (hidden comment: 47uF, 2917, 6.3V)
47uF, SMD Chip Capacitor, 2917 size, Tantalum, Polarized, 6.3V; Published: 8-Jun-2000; LatestRevisionDate: 29-May-2009; LatestRevisionNote: IPC-7351 Footprint Added.; Publisher: Altium Limited; PackageDescription: Chip Capacitor; Supplier 1: Digi-Key; Supplier 2: Newark; Supplier 3: Arrow; Supplier 4: Mouser; Supplier Part Number 1: 399-8389-1-ND; Supplier Part Number 2: 57K2021; Supplier Part Number 4: 80-T491D476K006AT; PackageReference: 2917C
footprint 2917-C-TANT (Capacitor, SM Tantalum; Body 7.3 x 4.3 mm (LxW typ), Kemet size code: V, D, X.  AVX size code: Y, D, E)
simulation model CAP (Capacitor)
signal-integrity model Cap Semi (Capacitor Signal Integrity Analisys)
3D model 2917Cap-Tant-D (PCB3D Model)
pins: 1, 2

## 47uF-PANA-G-ELEC
designator C?, comment value 47uF  Voltage: 50V  (hidden comment: 47uF, Size 'G', 50V)
47uF, SMD Electrolytic Can, Panasonic Size code 'G', Aluminum, Polarized 50V; Published: 8-Jun-2000; LatestRevisionDate: 29-May-2009; LatestRevisionNote: IPC-7351 Footprint Added.; Publisher: Altium Limited; PackageDescription: Panasonic Can Size G; Supplier 1: Arrow; Supplier 2: Mouser; Supplier 3: Digi-Key; Supplier Part Number 1: EEE-FC1H470P; Supplier Part Number 2: 667-EEE-FC1H470P; Supplier Part Number 3: PCE4020CT-ND; PackageReference: PanaCap-G
footprint PANACAP-G (SMD Aluminum Can Electrolytic Capacitor, Size code G, IPC Low Density)
simulation model CAP (Capacitor)
signal-integrity model Cap Semi (Capacitor Signal Integrity Analisys)
3D model PanaCap-G (PCB3D Model)
pins: +, -

## 82nF-C2420-FILM
designator C?, comment value 82nF  Voltage: 250V  (hidden comment: 82nF, 2420, 250V)
82nF, SMD Chip Capacitor, 2420 size, Non Polarized, 250V, FILM; Published: 8-Jun-2000; LatestRevisionDate: 29-May-2009; LatestRevisionNote: IPC-7351 Footprint Added.; Publisher: Altium Limited; PackageDescription: Chip Capacitor; Supplier 1: Arrow; Supplier 2: Digi-Key; Supplier 3: Mouser; Supplier Part Number 1: ECWU2823KC9; Supplier Part Number 2: PCF1270CT-ND; Supplier Part Number 3: 667-ECW-U2823KC9; PackageReference: 2420C
footprint 2420-C (Chip Capacitor, 2-Leads, Body 6.00x5.00mm, IPC Low Density)
simulation model CAP (Capacitor)
signal-integrity model Cap Semi (Capacitor Signal Integrity Analisys)
pins: 1, 2

## 100uF-C2220
designator C?, comment value 100uF  Voltage: 10V  (hidden comment: 100uF, 2220, 10V)
100uF, SMD Chip Capacitor, 2220 size, Non Polarized, 10V; Published: 8-Jun-2000; LatestRevisionDate: 29-May-2009; LatestRevisionNote: IPC-7351 Footprint Added.; Publisher: Altium Limited; PackageDescription: Chip Capacitor; Supplier 1: Mouser; Supplier 2: Digi-Key; Supplier 3: Arrow; Supplier Part Number 1: 810-C5750X5R1A107M; Supplier Part Number 2: 445-7786-1-ND; Supplier Part Number 3: C5750X5R1A107M280KC; PackageReference: 2220C
footprint 2220-C (Chip Capacitor, 2-Leads IPC Low Density)
simulation model CAP (Capacitor)
signal-integrity model Cap Semi (Capacitor Signal Integrity Analisys)
3D model 2220Cap (PCB3D Model)
pins: 1, 2

## 200uF-C2220
designator C?, comment value 200uF  Voltage: 50V  (hidden comment: 200uF, 2220, xxxV)
Generic, SMD Chip Capacitor, 2220 size, Non Polarized, xxxV; Published: 8-Jun-2000; LatestRevisionDate: 29-May-2009; LatestRevisionNote: IPC-7351 Footprint Added.; Publisher: Altium Limited; PackageDescription: Chip Capacitor; PackageReference: 2220C
footprint 2220-C (Chip Capacitor, 2-Leads IPC Low Density)
simulation model CAP (Capacitor)
signal-integrity model Cap Semi (Capacitor Signal Integrity Analisys)
3D model 2220Cap (PCB3D Model)
pins: 1, 2

## 330uF-C2917-TANT
designator C?, comment value 330uF  Voltage: 6.3V  (hidden comment: TPSE337M006R0100)
330uF, SMD Chip Capacitor, 2917 size, Tantalum, Polarized, 6.3V; Published: 8-Jun-2000; LatestRevisionDate: 29-May-2009; LatestRevisionNote: IPC-7351 Footprint Added.; Publisher: Altium Limited; PackageDescription: Chip Capacitor; Part Number: TPSE337M006R0100; Supplier 1: Mouser; Supplier Part Number 1: 581-TPSE337M006R0100; Supplier 2: Digi-Key; Supplier Part Number 2: 478-1804-1-ND; Supplier 3: Allied; Supplier Part Number 3: 70195603; PackageReference: 2917C
footprint 2917-C-TANT (Capacitor, SM Tantalum; Body 7.3 x 4.3 mm (LxW typ), Kemet size code: V, D, X.  AVX size code: Y, D, E)
simulation model CAP (Capacitor)
signal-integrity model Cap Semi (Capacitor Signal Integrity Analisys)
3D model 2917Cap-Tant-D (PCB3D Model)
pins: 1, 2

## 330uF-C-PANA-F-ELEC
designator C?, comment value 330uF  Voltage: 25V  (hidden comment: UWT1E331MNL1GS)
330uF, SMD Aluminum Electrolytic, Panasonic size code F, Tantalum, Polarized, 25V; Published: 8-Jun-2000; LatestRevisionDate: 29-May-2009; LatestRevisionNote: IPC-7351 Footprint Added.; Publisher: Altium Limited; PackageDescription: SMD Aluminum Can Electrolytic Capacitor, Size code F, IPC Low Density; Part Number: UWT1E331MNL1GS; Supplier 1: Mouser; Supplier Part Number 1: 647-UWT1E331MNL1S; Supplier 2: Digi-Key; Supplier Part Number 2: 493-2193-1-ND; Supplier 3: Newark; Supplier Part Number 3: 58R3568; PackageReference: PANACAP-F
footprint PANACAP-F (SMD Aluminum Can Electrolytic Capacitor, Size code F, IPC Low Density)
simulation model CAP (Capacitor)
signal-integrity model Cap Semi (Capacitor Signal Integrity Analisys)
3D model PanaCap-F (PCB3D Model)
pins: + 1, - 2

## 470nF-C2312-TANT
designator C?, comment value 470nF  Voltage: 6.3V  (hidden comment: 470nF, 2312, 6.3V)
470nF, SMD Chip Capacitor, 2312 size, Tantalum, Polarized 6.3V; Published: 8-Jun-2000; LatestRevisionDate: 29-May-2009; LatestRevisionNote: IPC-7351 Footprint Added.; Publisher: Altium Limited; PackageDescription: Chip Capacitor; Supplier 1: Newark; Supplier 2: Mouser; Supplier 3: Digi-Key; Supplier Part Number 1: 57K1914; Supplier Part Number 2: 80-T491C474K050; Supplier Part Number 3: 399-3752-1-ND; PackageReference: 2312C
footprint 2412-C-TANT (Capacitor, SM Tantalum; Body 6.0 x 3.2 mm (LxW typ), Kemet Size Codes: U, C; AVX size code: C, W)
simulation model CAP (Capacitor)
signal-integrity model Cap Semi (Capacitor Signal Integrity Analisys)
3D model 2312Cap-Tant-C (PCB3D Model)
pins: 1, 2

## 470pF-C2825
designator C?, comment value 470pF  Voltage: 1kV  (hidden comment: 470pF, 2825,1kV)
470pF, SMD Chip Capacitor, 2825 size, Non Polarized, 1kV; Published: 8-Jun-2000; LatestRevisionDate: 29-May-2009; LatestRevisionNote: IPC-7351 Footprint Added.; Publisher: Altium Limited; PackageDescription: Chip Capacitor; Supplier 1: Mouser; Supplier 2: Digi-Key; Supplier 3: Arrow; Supplier Part Number 1: 667-ECK-T3A471KB; Supplier Part Number 2: PCC2100CT-ND; Supplier Part Number 3: ECK-T3A471KB; PackageReference: 2825C
footprint 2825-C (Molded Capacitor, 2-Leads, Body 5.70x4.50mm, IPC Low Density)
simulation model CAP (Capacitor)
signal-integrity model Cap Semi (Capacitor Signal Integrity Analisys)
pins: 1, 2

## 470pF-C-PANA-F-ELEC
designator C?, comment value 470pF  Voltage: 16V  (hidden comment: 470pF, Size 'F', 16V)
470pF, SMD Electrolytic Can, Panasonic Size code 'F', Aluminum, Polarized, 16V; Published: 8-Jun-2000; LatestRevisionDate: 29-May-2009; LatestRevisionNote: IPC-7351 Footprint Added.; Publisher: Altium Limited; PackageDescription: Panasonic Can Size F; Supplier 1: Digi-Key; Supplier 2: Mouser; Supplier 3: Arrow; Supplier 4: Newark; Supplier Part Number 1: PCE4436CT-ND; Supplier Part Number 2: 667-EEE-FP1C471AP; Supplier Part Number 3: EEEFP1C471AP; Supplier Part Number 4: 94M7027; PackageReference: PanaCap-F
footprint PANACAP-F (SMD Aluminum Can Electrolytic Capacitor, Size code F, IPC Low Density)
simulation model CAP (Capacitor)
signal-integrity model Cap Semi (Capacitor Signal Integrity Analisys)
3D model PanaCap-F (PCB3D Model)
pins: +, -

## 470uF-PANA-F-ELEC
designator C?, comment value 470uF  Voltage: 16V  (hidden comment: 470uF, Size 'F', 16V)
470uF, SMD Electrolytic Can, Panasonic Size code 'F', Aluminum, Polarized 16V; Published: 8-Jun-2000; LatestRevisionDate: 29-May-2009; LatestRevisionNote: IPC-7351 Footprint Added.; Publisher: Altium Limited; PackageDescription: Panasonic Can Size F; Supplier 1: Newark; Supplier 2: Arrow; Supplier 3: Mouser; Supplier 4: Digi-Key; Supplier Part Number 1: 94M7027; Supplier Part Number 2: EEEFP1C471AP; Supplier Part Number 3: 667-EEE-FP1C471AP; Supplier Part Number 4: PCE4436CT-ND; PackageReference: PanaCap-F
footprint PANACAP-F (SMD Aluminum Can Electrolytic Capacitor, Size code F, IPC Low Density)
simulation model CAP (Capacitor)
signal-integrity model Cap Semi (Capacitor Signal Integrity Analisys)
3D model PanaCap-F (PCB3D Model)
pins: +, -

## 750pF-C1812-MICA
designator C?, comment value 750pF  Voltage: 100V  (hidden comment: 750pF, 1812, 100V, Mica)
750pF, SMD Chip Capacitor, 1812 size, Non Polarized, 100V, Mica; Published: 8-Jun-2000; LatestRevisionDate: 29-May-2009; LatestRevisionNote: IPC-7351 Footprint Added.; Publisher: Altium Limited; PackageDescription: Chip Capacitor; Supplier 1: Digi-Key; Supplier 2: Mouser; Supplier Part Number 1: 338-1342-ND; Supplier Part Number 2: 598-MC18FA751J-TF; PackageReference: 1812C
footprint 1812-C (Chip Capacitor, 2-Leads, IPC Low Density)
simulation model CAP (Capacitor)
signal-integrity model Cap Semi (Capacitor Signal Integrity Analisys)
3D model 1812Cap (PCB3D Model)
pins: 1, 2

## CAP-C1411-TANT
designator C?, comment value CHANGEME  (hidden comment: ????, 1411, ??V)
Generic, SMD Tantalum Capacitor, 1411 size, Polarized, xxV; Published: 8-Jun-2000; LatestRevisionDate: 29-May-2009; LatestRevisionNote: IPC-7351 Footprint Added.; Publisher: Altium Limited; PackageDescription: Chip Capacitor; PackageReference: 1411C; Voltage: VOLTAGE
footprint 1210-C-TANT (Molded Capacitor, 2-Leads, Body 3.50x2.85mm, IPC Low Density)
simulation model CAP (Capacitor)
signal-integrity model Cap Semi (Capacitor Signal Integrity Analisys)
3D model 1411Cap-Tant-B (PCB3D Model)
pins: 1, 2

## CAP-C1812
designator C?, comment value CHANGEME  Voltage: VOLTS  (hidden comment: xxxF, 1812, xxxV)
Generic, SMD Chip Capacitor, 1812 size, Non Polarized, xxxV; Published: 8-Jun-2000; LatestRevisionDate: 29-May-2009; LatestRevisionNote: IPC-7351 Footprint Added.; Publisher: Altium Limited; PackageDescription: Chip Capacitor; PackageReference: 1812C
footprint 1812-C (Chip Capacitor, 2-Leads, IPC Low Density)
simulation model CAP (Capacitor)
signal-integrity model Cap Semi (Capacitor Signal Integrity Analisys)
3D model 1812Cap (PCB3D Model)
pins: 1, 2

## CAP-C1913
designator C?, comment value CHANGEME  Voltage: VOLTS  (hidden comment: xxxF, 1913, xxxV)
Generic, SMD Chip Capacitor, 1913 size, Non Polarized, xxxV; Published: 8-Jun-2000; LatestRevisionDate: 29-May-2009; LatestRevisionNote: IPC-7351 Footprint Added.; Publisher: Altium Limited; PackageDescription: Chip Capacitor; PackageReference: 1913C
footprint 1913-C (Chip Capacitor, 2-Leads, IPC Low Density)
simulation model CAP (Capacitor)
signal-integrity model Cap Semi (Capacitor Signal Integrity Analisys)
3D model 1913Cap (PCB3D Model)
pins: 1, 2

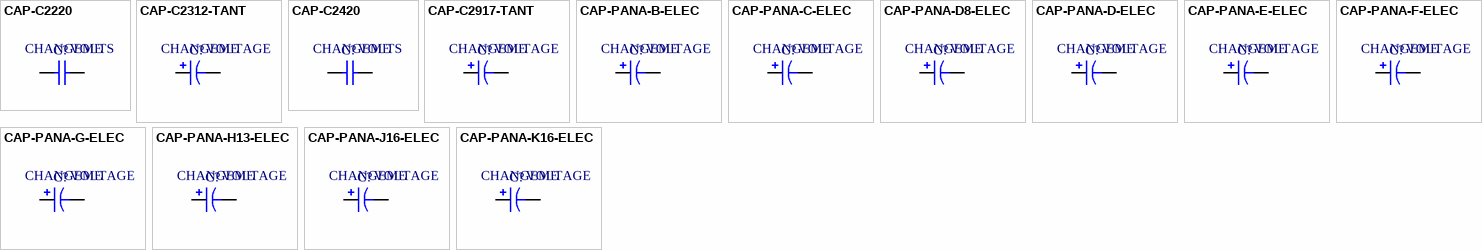
[diagram p2: symbols CAP-C2220 to CAP-PANA-K16-ELEC]

## CAP-C2220
designator C?, comment value CHANGEME  Voltage: VOLTS  (hidden comment: xxxF, 2220, xxxV)
Generic, SMD Chip Capacitor, 2220 size, Non Polarized, xxxV; Published: 8-Jun-2000; LatestRevisionDate: 29-May-2009; LatestRevisionNote: IPC-7351 Footprint Added.; Publisher: Altium Limited; PackageDescription: Chip Capacitor; PackageReference: 2220C
footprint 2220-C (Chip Capacitor, 2-Leads IPC Low Density)
simulation model CAP (Capacitor)
signal-integrity model Cap Semi (Capacitor Signal Integrity Analisys)
3D model 2220Cap (PCB3D Model)
pins: 1, 2

## CAP-C2312-TANT
designator C?, comment value CHANGEME  (hidden comment: ????, 2312, ??V)
Generic, SMD Chip Capacitor, 2312 size, Tantalum, Polarized; Published: 8-Jun-2000; LatestRevisionDate: 29-May-2009; LatestRevisionNote: IPC-7351 Footprint Added.; Publisher: Altium Limited; PackageDescription: Chip Capacitor; PackageReference: 2312C; Voltage: VOLTAGE
footprint 2412-C-TANT (Capacitor, SM Tantalum; Body 6.0 x 3.2 mm (LxW typ), Kemet Size Codes: U, C; AVX size code: C, W)
simulation model CAP (Capacitor)
signal-integrity model Cap Semi (Capacitor Signal Integrity Analisys)
3D model 2312Cap-Tant-C (PCB3D Model)
pins: 1, 2

## CAP-C2420
designator C?, comment value CHANGEME  Voltage: VOLTS  (hidden comment: xxxF, 2420, xxxV)
Generic, SMD Chip Capacitor, 2420 size, Non Polarized, xxxV; Published: 8-Jun-2000; LatestRevisionDate: 29-May-2009; LatestRevisionNote: IPC-7351 Footprint Added.; Publisher: Altium Limited; PackageDescription: Chip Capacitor; PackageReference: 2420C
footprint 2420-C (Chip Capacitor, 2-Leads, Body 6.00x5.00mm, IPC Low Density)
simulation model CAP (Capacitor)
signal-integrity model Cap Semi (Capacitor Signal Integrity Analisys)
pins: 1, 2

## CAP-C2917-TANT
designator C?, comment value CHANGEME  (hidden comment: ????, 2917, ??V)
Generic, SMD Chip Capacitor, 2917 size, Tantalum, Polarized, xxV; Published: 8-Jun-2000; LatestRevisionDate: 29-May-2009; LatestRevisionNote: IPC-7351 Footprint Added.; Publisher: Altium Limited; PackageDescription: Chip Capacitor; PackageReference: 2917C; Voltage: VOLTAGE
footprint 2917-C-TANT (Capacitor, SM Tantalum; Body 7.3 x 4.3 mm (LxW typ), Kemet size code: V, D, X.  AVX size code: Y, D, E)
simulation model CAP (Capacitor)
signal-integrity model Cap Semi (Capacitor Signal Integrity Analisys)
3D model 2917Cap-Tant-D (PCB3D Model)
pins: 1, 2

## CAP-PANA-B-ELEC
designator C?, comment value CHANGEME  (hidden comment: ????, Size 'B', ??V)
Generic, SMD Electrolytic Can, Panasonic Size code 'B', Aluminum, Polarized; Published: 8-Jun-2000; LatestRevisionDate: 29-May-2009; LatestRevisionNote: IPC-7351 Footprint Added.; Publisher: Altium Limited; PackageDescription: Panasonic Can Size B; PackageReference: PanaCap-B; Voltage: VOLTAGE
footprint PANACAP-B (SMD Aluminum Can Electrolytic Capacitor, Size code B, IPC Low Density)
simulation model CAP (Capacitor)
signal-integrity model Cap Semi (Capacitor Signal Integrity Analisys)
3D model PanaCap-B (PCB3D Model)
pins: +, -

## CAP-PANA-C-ELEC
designator C?, comment value CHANGEME  (hidden comment: ????, Size 'C', ??V)
Generic, SMD Electrolytic Can, Panasonic Size code 'C', Aluminum, Polarized; Published: 8-Jun-2000; LatestRevisionDate: 29-May-2009; LatestRevisionNote: IPC-7351 Footprint Added.; Publisher: Altium Limited; PackageDescription: Panasonic Can Size C; PackageReference: PanaCap-C; Voltage: VOLTAGE
footprint PANACAP-C (SMD Aluminum Can Electrolytic Capacitor, Size code C, IPC Low Density)
simulation model CAP (Capacitor)
signal-integrity model Cap Semi (Capacitor Signal Integrity Analisys)
3D model PanaCap-C (PCB3D Model)
pins: +, -

## CAP-PANA-D8-ELEC
designator C?, comment value CHANGEME  (hidden comment: ????, Size 'D8', ??V)
Generic, SMD Electrolytic Can, Panasonic Size code 'D8', Aluminum, Polarized; Published: 8-Jun-2000; LatestRevisionDate: 29-May-2009; LatestRevisionNote: IPC-7351 Footprint Added.; Publisher: Altium Limited; PackageDescription: Panasonic Can Size D8; PackageReference: PanaCap-D8; Voltage: VOLTAGE
footprint PANACAP-D8 (SMD Aluminum Can Electrolytic Capacitor, Size code D8, IPC Low Density)
simulation model CAP (Capacitor)
signal-integrity model Cap Semi (Capacitor Signal Integrity Analisys)
3D model PanaCap-D8 (PCB3D Model)
pins: +, -

## CAP-PANA-D-ELEC
designator C?, comment value CHANGEME  (hidden comment: ????, Size 'D', ??V)
Generic, SMD Electrolytic Can, Panasonic Size code 'D', Aluminum, Polarized; Published: 8-Jun-2000; LatestRevisionDate: 29-May-2009; LatestRevisionNote: IPC-7351 Footprint Added.; Publisher: Altium Limited; PackageDescription: Panasonic Can Size D; PackageReference: PanaCap-D; Voltage: VOLTAGE
footprint PANACAP-D (SMD Aluminum Can Electrolytic Capacitor, Size code D, IPC Low Density)
simulation model CAP (Capacitor)
signal-integrity model Cap Semi (Capacitor Signal Integrity Analisys)
3D model PanaCap-D (PCB3D Model)
pins: +, -

## CAP-PANA-E-ELEC
designator C?, comment value CHANGEME  (hidden comment: ????, Size 'E', ??V)
Generic, SMD Electrolytic Can, Panasonic Size code 'E', Aluminum, Polarized; Published: 8-Jun-2000; LatestRevisionDate: 29-May-2009; LatestRevisionNote: IPC-7351 Footprint Added.; Publisher: Altium Limited; PackageDescription: Panasonic Can Size E; PackageReference: PanaCap-E; Voltage: VOLTAGE
footprint PANACAP-E (SMD Aluminum Can Electrolytic Capacitor, Size code B, IPC Low Density)
simulation model CAP (Capacitor)
signal-integrity model Cap Semi (Capacitor Signal Integrity Analisys)
3D model PanaCap-E (PCB3D Model)
pins: +, -

## CAP-PANA-F-ELEC
designator C?, comment value CHANGEME  (hidden comment: ????, Size 'F', ??V)
Generic, SMD Electrolytic Can, Panasonic Size code 'F', Aluminum, Polarized; Published: 8-Jun-2000; LatestRevisionDate: 29-May-2009; LatestRevisionNote: IPC-7351 Footprint Added.; Publisher: Altium Limited; PackageDescription: Panasonic Can Size F; PackageReference: PanaCap-F; Voltage: VOLTAGE
footprint PANACAP-F (SMD Aluminum Can Electrolytic Capacitor, Size code F, IPC Low Density)
simulation model CAP (Capacitor)
signal-integrity model Cap Semi (Capacitor Signal Integrity Analisys)
3D model PanaCap-F (PCB3D Model)
pins: +, -

## CAP-PANA-G-ELEC
designator C?, comment value CHANGEME  (hidden comment: ????, Size 'G', ??V)
Generic, SMD Electrolytic Can, Panasonic Size code 'G', Aluminum, Polarized; Published: 8-Jun-2000; LatestRevisionDate: 29-May-2009; LatestRevisionNote: IPC-7351 Footprint Added.; Publisher: Altium Limited; PackageDescription: Panasonic Can Size G; PackageReference: PanaCap-G; Voltage: VOLTAGE
footprint PANACAP-G (SMD Aluminum Can Electrolytic Capacitor, Size code G, IPC Low Density)
simulation model CAP (Capacitor)
signal-integrity model Cap Semi (Capacitor Signal Integrity Analisys)
3D model PanaCap-G (PCB3D Model)
pins: +, -

## CAP-PANA-H13-ELEC
designator C?, comment value CHANGEME  (hidden comment: ????, Size 'H13', ??V)
Generic, SMD Electrolytic Can, Panasonic Size code 'H13', Aluminum, Polarized; Published: 8-Jun-2000; LatestRevisionDate: 29-May-2009; LatestRevisionNote: IPC-7351 Footprint Added.; Publisher: Altium Limited; PackageDescription: Panasonic Can Size H13; PackageReference: PanaCap-H13; Voltage: VOLTAGE
footprint PANACAP-H13 (SMD Aluminum Can Electrolytic Capacitor, Size code H13, IPC Low Density)
simulation model CAP (Capacitor)
signal-integrity model Cap Semi (Capacitor Signal Integrity Analisys)
3D model PanaCap-H13 (PCB3D Model)
pins: +, -

## CAP-PANA-J16-ELEC
designator C?, comment value CHANGEME  (hidden comment: ????, Size 'J16', ??V)
Generic, SMD Electrolytic Can, Panasonic Size code 'J16', Aluminum, Polarized; Published: 8-Jun-2000; LatestRevisionDate: 29-May-2009; LatestRevisionNote: IPC-7351 Footprint Added.; Publisher: Altium Limited; PackageDescription: Panasonic Can Size J16; PackageReference: PanaCap-J16; Voltage: VOLTAGE
footprint PANACAP-J16 (SMD Aluminum Can Electrolytic Capacitor, Size code J16, IPC Low Density)
simulation model CAP (Capacitor)
signal-integrity model Cap Semi (Capacitor Signal Integrity Analisys)
3D model PanaCap-J16 (PCB3D Model)
pins: +, -

## CAP-PANA-K16-ELEC
designator C?, comment value CHANGEME  (hidden comment: ????, Size 'K16', ??V)
Generic, SMD Electrolytic Can, Panasonic Size code 'K16', Aluminum, Polarized; Published: 8-Jun-2000; LatestRevisionDate: 29-May-2009; LatestRevisionNote: IPC-7351 Footprint Added.; Publisher: Altium Limited; PackageDescription: Panasonic Can Size K16; PackageReference: PanaCap-K16; Voltage: VOLTAGE
footprint PANACAP-K16 (SMD Aluminum Can Electrolytic Capacitor, Size code K16, IPC Low Density)
simulation model CAP (Capacitor)
signal-integrity model Cap Semi (Capacitor Signal Integrity Analisys)
3D model PanaCap-K16 (PCB3D Model)
pins: +, -


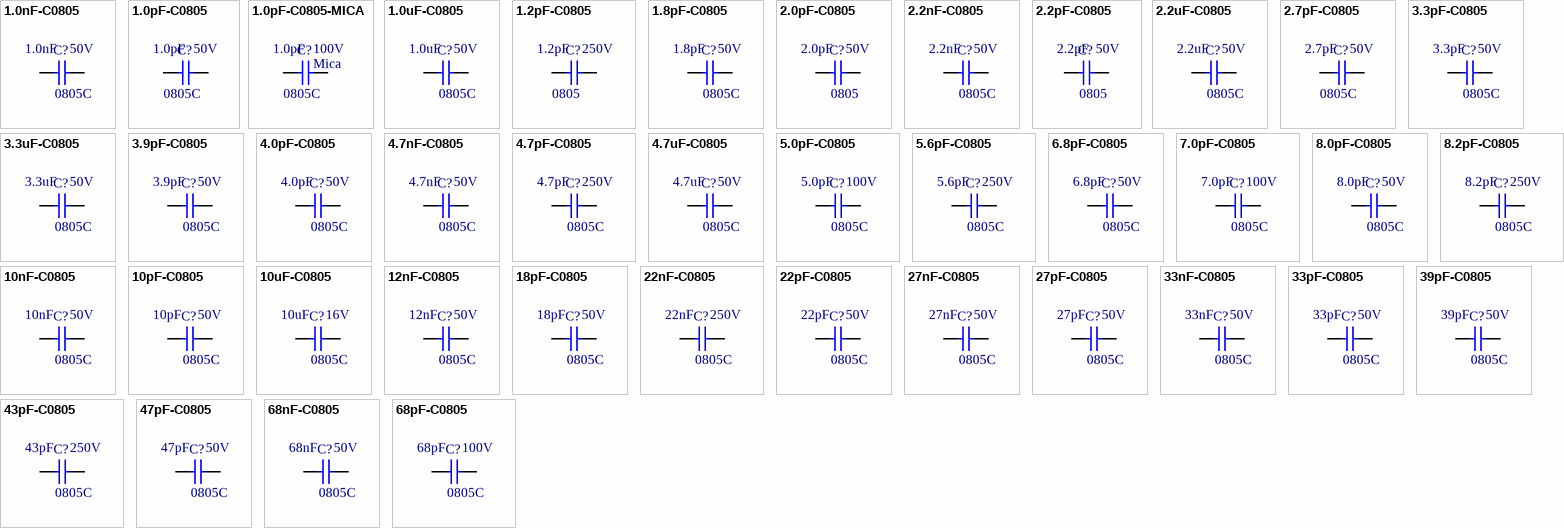
[diagram p3: symbols 1.0nF-C0805 to 68pF-C0805]

## 1.0nF-C0805
designator C?, comment value 1.0nF  PackageReference: 0805C  Voltage: 50V  (hidden comment: 1.0nF, 0805, 50V)
1.0nF, SMD Chip Capacitor, 0805 size, Non Polarized, 50V; Published: 8-Jun-2000; LatestRevisionDate: 29-May-2009; LatestRevisionNote: IPC-7351 Footprint Added.; Publisher: Altium Limited; PackageDescription: Chip Capacitor; Supplier 1: Newark; Supplier 2: Mouser; Supplier 3: Digi-Key; Supplier Part Number 1: 64K2881; Supplier Part Number 2: 80-C0805C102K5R; Supplier Part Number 3: 399-1147-1-ND
footprint 0805-C (Chip Capacitor, Body 2.0x1.3mm, IPC High Density)
simulation model CAP (Capacitor)
signal-integrity model Cap Semi (Capacitor Signal Integrity Analisys)
3D model 0805Cap (PCB3D Model)
pins: 1, 2

## 1.0pF-C0805
designator C?, comment value 1.0pF  PackageReference: 0805C  Voltage: 50V  (hidden comment: 1.0pF, 0805, 50V)
1.0pF, SMD Chip Capacitor, 0805 size, Non Polarized, 50V; Published: 8-Jun-2000; LatestRevisionDate: 29-May-2009; LatestRevisionNote: IPC-7351 Footprint Added.; Publisher: Altium Limited; PackageDescription: Chip Capacitor; Supplier 1: Newark; Supplier 2: Digi-Key; Supplier 3: Mouser; Supplier Part Number 1: 94W2921; Supplier Part Number 2: 478-1292-1-ND; Supplier Part Number 3: 581-08055A1R0C
footprint 0805-C (Chip Capacitor, Body 2.0x1.3mm, IPC High Density)
simulation model CAP (Semiconductor Capacitor)
signal-integrity model Cap Semi (Capacitor Signal Integrity Analisys)
3D model 0805Cap (PCB3D Model)
pins: 1, 2